# EAGLE library part 1X4-SIL (library JLB6_Connec)
Embase horizontale pour HE10 4 pins 8 broches
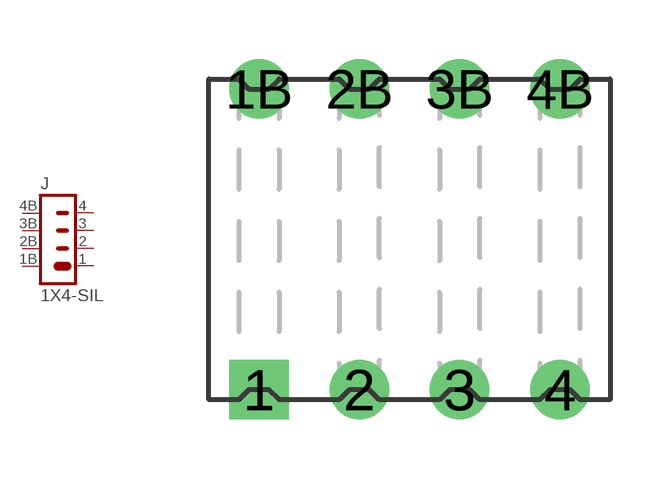
[diagram p48: symbol with the pads of 1X4-SIL; footprint 1X4-SIL]

Designator prefix J

## 1X4-SIL  [1X4-SIL]
1  1  pas
1B  1B  pas
2  2  pas
2B  2B  pas
3  3  pas
3B  3B  pas
4  4  pas
4B  4B  pas

## Footprint 1X4-SIL (pad centres in mm)
drill 1 square: 1 -3.81,-3.81
drill 1: 1B -3.81,3.81; 2 -1.27,-3.81; 2B -1.27,3.81; 3 1.27,-3.81; 3B 1.27,3.81; 4 3.81,-3.81; 4B 3.81,3.81